# Altium footprint library SOP - SmallOutlinePackage.PcbLib: 21 footprints (part 1 of 2)
Each footprint in its own frame and in the unit in brackets; x right, y up, seen from the top. Pads: shape width x height; smd on the part's side, far side on the other; paste and mask are expansions set on the pad; w line width, h text height; cw(c..) or ccw(c..) is an arc to the next point about the centre after c.
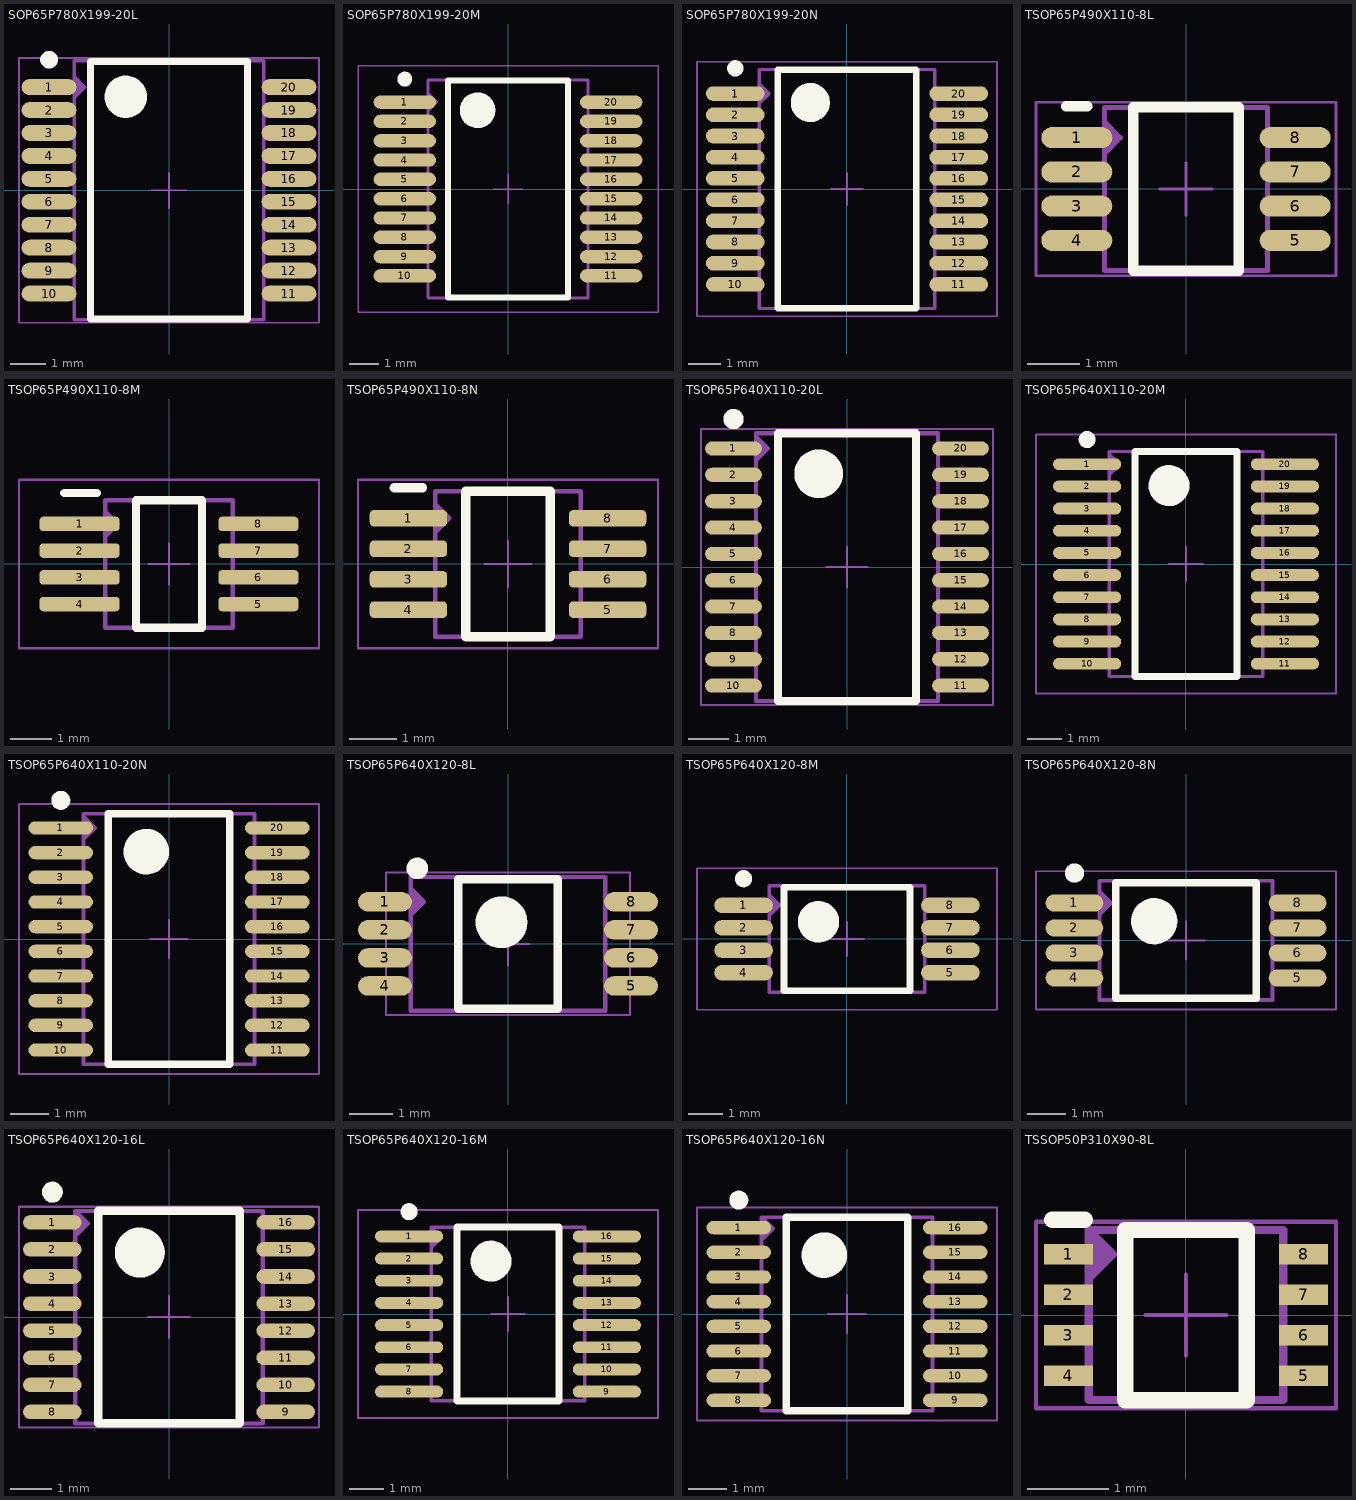
[diagram p0: the footprints below, top view; thin cyan lines are the x and y axes]

## SOP65P780X199-20L [mm] "SOP, 20-Leads, Body 7.3x5.4mm (max), Pitch 0.65mm, IPC High Density"
height 1.99
pads (20):
  oval 1.55x0.45 smd: 1(-3.4,2.925) 2(-3.4,2.275) 3(-3.4,1.625) 4(-3.4,0.975) 5(-3.4,0.325) 6(-3.4,-0.325) 7(-3.4,-0.975) 8(-3.4,-1.625) 9(-3.4,-2.275) 10(-3.4,-2.925) 11(3.4,-2.925) 12(3.4,-2.275) 13(3.4,-1.625) 14(3.4,-0.975) 15(3.4,-0.325) 16(3.4,0.325) 17(3.4,0.975) 18(3.4,1.625) 19(3.4,2.275) 20(3.4,2.925)
Top Overlay:
  circle w0.6: c-1.225,2.65 r0.3
  circle w0.25: c-3.4,3.7 r0.125
  lines w0.2: -2.225,-3.65 2.225,-3.65 2.225,3.65 -2.225,3.65 -2.225,-3.65
TopBody:
  lines w0.1: -2.69,2.625 -2.39,2.925 -2.69,3.225 ; -2.69,2.725 -2.49,2.925 -2.69,3.125 ; -2.69,2.825 -2.59,2.925 -2.69,3.025 ; -2.69,-3.665 2.69,-3.665 2.69,3.665 -2.69,3.665 -2.69,-3.665
TopCourtyard:
  lines w0.05: -0.5,0 0,0 ; 0,-0.5 0,0 ; 0,0.5 0,0 ; 0.5,0 0,0 ; -4.25,-3.75 4.25,-3.75 4.25,3.75 -4.25,3.75 -4.25,-3.75
3D body: height 1.99, standoff 0.1, extent -2.69,-3.665 2.69,3.665

## SOP65P780X199-20M [mm] "SOP, 20-Leads, Body 7.3x5.4mm (max), Pitch 0.65mm, IPC Low Density"
height 1.99
pads (20):
  oval 2.1x0.45 smd: 1(-3.475,2.925) 2(-3.475,2.275) 3(-3.475,1.625) 4(-3.475,0.975) 5(-3.475,0.325) 6(-3.475,-0.325) 7(-3.475,-0.975) 8(-3.475,-1.625) 9(-3.475,-2.275) 10(-3.475,-2.925) 11(3.475,-2.925) 12(3.475,-2.275) 13(3.475,-1.625) 14(3.475,-0.975) 15(3.475,-0.325) 16(3.475,0.325) 17(3.475,0.975) 18(3.475,1.625) 19(3.475,2.275) 20(3.475,2.925)
Top Overlay:
  circle w0.25: c-3.475,3.7 r0.125
  circle w0.6: c-1.025,2.65 r0.3
  lines w0.2: -2.025,-3.65 -2.025,3.65 2.025,3.65 2.025,-3.65 -2.025,-3.65
TopBody:
  lines w0.1: -2.69,2.625 -2.39,2.925 -2.69,3.225 ; -2.69,2.725 -2.49,2.925 -2.69,3.125 ; -2.69,2.825 -2.59,2.925 -2.69,3.025 ; -2.69,-3.665 -2.69,3.665 2.69,3.665 2.69,-3.665 -2.69,-3.665
TopCourtyard:
  lines w0.05: -0.5,0 0,0 ; 0,-0.5 0,0 ; 0,0.5 0,0 ; 0.5,0 0,0 ; -5.05,-4.15 -5.05,4.15 5.05,4.15 5.05,-4.15 -5.05,-4.15
3D body: height 1.99, standoff 0.1, extent -2.69,-3.665 2.69,3.665

## SOP65P780X199-20N [mm] "SOP, 20-Leads, Body 7.3x5.4mm (max), Pitch 0.65mm, IPC Medium Density"
height 1.99
pads (20):
  oval 1.8x0.45 smd: 1(-3.425,2.925) 2(-3.425,2.275) 3(-3.425,1.625) 4(-3.425,0.975) 5(-3.425,0.325) 6(-3.425,-0.325) 7(-3.425,-0.975) 8(-3.425,-1.625) 9(-3.425,-2.275) 10(-3.425,-2.925) 11(3.425,-2.925) 12(3.425,-2.275) 13(3.425,-1.625) 14(3.425,-0.975) 15(3.425,-0.325) 16(3.425,0.325) 17(3.425,0.975) 18(3.425,1.625) 19(3.425,2.275) 20(3.425,2.925)
Top Overlay:
  circle w0.6: c-1.125,2.65 r0.3
  circle w0.25: c-3.425,3.7 r0.125
  lines w0.2: -2.125,-3.65 2.125,-3.65 2.125,3.65 -2.125,3.65 -2.125,-3.65
TopBody:
  lines w0.1: -2.69,2.625 -2.39,2.925 -2.69,3.225 ; -2.69,2.725 -2.49,2.925 -2.69,3.125 ; -2.69,2.825 -2.59,2.925 -2.69,3.025 ; -2.69,-3.665 2.69,-3.665 2.69,3.665 -2.69,3.665 -2.69,-3.665
TopCourtyard:
  lines w0.05: -0.5,0 0,0 ; 0,-0.5 0,0 ; 0,0.5 0,0 ; 0.5,0 0,0 ; -4.6,-3.9 4.6,-3.9 4.6,3.9 -4.6,3.9 -4.6,-3.9
3D body: height 1.99, standoff 0.1, extent -2.69,-3.665 2.69,3.665

## TSOP65P490X110-8L [mm] "TSOP, 8-Leads, Body 3.1x3.1mm (max), Pitch 0.65mm, IPC High Density"
height 1.1
pads (8):
  oval 1.35x0.4 smd: 1(-2.075,0.975) 2(-2.075,0.325) 3(-2.075,-0.325) 4(-2.075,-0.975) 5(2.075,-0.975) 6(2.075,-0.325) 7(2.075,0.325) 8(2.075,0.975)
Top Overlay:
  lines w0.2: -2.275,1.575 -1.875,1.575 ; -1,-1.55 1,-1.55 1,1.55 -1,1.55 -1,-1.55
TopBody:
  lines w0.1: -1.55,0.675 -1.25,0.975 -1.55,1.275 ; -1.55,0.775 -1.35,0.975 -1.55,1.175 ; -1.55,0.875 -1.45,0.975 -1.55,1.075 ; -1.55,-1.55 1.55,-1.55 1.55,1.55 -1.55,1.55 -1.55,-1.55
TopCourtyard:
  lines w0.05: -0.5,0 0,0 ; 0,-0.5 0,0 ; 0,0.5 0,0 ; 0.5,0 0,0 ; -2.85,-1.65 2.85,-1.65 2.85,1.65 -2.85,1.65 -2.85,-1.65
3D body: height 1.1, standoff 0.05, extent -1.55,-1.55 1.55,1.55

## TSOP65P490X110-8M [mm] "TSOP, 8-Leads, Body 3.1x3.1mm (max), Pitch 0.65mm, IPC Low Density"
height 1.1
pads (8):
  rrect50% 1.95x0.35 smd: 1(-2.175,0.975) 2(-2.175,0.325) 3(-2.175,-0.325) 4(-2.175,-0.975) 5(2.175,-0.975) 6(2.175,-0.325) 7(2.175,0.325) 8(2.175,0.975)
Top Overlay:
  lines w0.2: -2.55,1.725 -1.75,1.725 ; -0.8,-1.55 -0.8,1.55 0.8,1.55 0.8,-1.55 -0.8,-1.55
TopBody:
  lines w0.1: -1.55,0.675 -1.25,0.975 -1.55,1.275 ; -1.55,0.775 -1.35,0.975 -1.55,1.175 ; -1.55,0.875 -1.45,0.975 -1.55,1.075 ; -1.55,-1.55 -1.55,1.55 1.55,1.55 1.55,-1.55 -1.55,-1.55
TopCourtyard:
  lines w0.05: -0.5,0 0,0 ; 0,-0.5 0,0 ; 0,0.5 0,0 ; 0.5,0 0,0 ; -3.65,-2.05 -3.65,2.05 3.65,2.05 3.65,-2.05 -3.65,-2.05
3D body: height 1.1, standoff 0.05, extent -1.55,-1.55 1.55,1.55

## TSOP65P490X110-8N [mm] "TSOP, 8-Leads, Body 3.1x3.1mm (max), Pitch 0.65mm, IPC Medium Density"
height 1.1
pads (8):
  rrect50% 1.65x0.35 smd: 1(-2.125,0.975) 2(-2.125,0.325) 3(-2.125,-0.325) 4(-2.125,-0.975) 5(2.125,-0.975) 6(2.125,-0.325) 7(2.125,0.325) 8(2.125,0.975)
Top Overlay:
  lines w0.2: -2.425,1.625 -1.825,1.625 ; -0.9,-1.55 0.9,-1.55 0.9,1.55 -0.9,1.55 -0.9,-1.55
TopBody:
  lines w0.1: -1.55,0.675 -1.25,0.975 -1.55,1.275 ; -1.55,0.775 -1.35,0.975 -1.55,1.175 ; -1.55,0.875 -1.45,0.975 -1.55,1.075 ; -1.55,-1.55 1.55,-1.55 1.55,1.55 -1.55,1.55 -1.55,-1.55
TopCourtyard:
  lines w0.05: -0.5,0 0,0 ; 0,-0.5 0,0 ; 0,0.5 0,0 ; 0.5,0 0,0 ; -3.2,-1.8 3.2,-1.8 3.2,1.8 -3.2,1.8 -3.2,-1.8
3D body: height 1.1, standoff 0.05, extent -1.55,-1.55 1.55,1.55

## TSOP65P640X110-20L [mm] "TSOP, 20-Leads, Body 6.6x4.5mm (max), Pitch 0.65mm, IPC High Density"
height 1.1
pads (20):
  oval 1.4x0.35 smd: 1(-2.8,2.925) 2(-2.8,2.275) 3(-2.8,1.625) 4(-2.8,0.975) 5(-2.8,0.325) 6(-2.8,-0.325) 7(-2.8,-0.975) 8(-2.8,-1.625) 9(-2.8,-2.275) 10(-2.8,-2.925) 11(2.8,-2.925) 12(2.8,-2.275) 13(2.8,-1.625) 14(2.8,-0.975) 15(2.8,-0.325) 16(2.8,0.325) 17(2.8,0.975) 18(2.8,1.625) 19(2.8,2.275) 20(2.8,2.925)
Top Overlay:
  circle w0.25: c-2.8,3.65 r0.125
  circle w0.6: c-0.7,2.3 r0.3
  lines w0.2: -1.7,-3.3 -1.7,3.3 1.7,3.3 1.7,-3.3 -1.7,-3.3
TopBody:
  lines w0.1: -2.25,2.625 -1.95,2.925 -2.25,3.225 ; -2.25,2.725 -2.05,2.925 -2.25,3.125 ; -2.25,2.825 -2.15,2.925 -2.25,3.025 ; -2.25,-3.3 -2.25,3.3 2.25,3.3 2.25,-3.3 -2.25,-3.3
TopCourtyard:
  lines w0.05: -0.5,0 0,0 ; 0,-0.5 0,0 ; 0,0.5 0,0 ; 0.5,0 0,0 ; -3.6,-3.4 -3.6,3.4 3.6,3.4 3.6,-3.4 -3.6,-3.4
3D body: height 1.1, standoff 0.1, extent -2.25,-3.3 2.25,3.3

## TSOP65P640X110-20M [mm] "TSOP, 20-Leads, Body 6.6x4.5mm (max), Pitch 0.65mm, IPC Low Density"
height 1.1
pads (20):
  oval 2x0.35 smd: 1(-2.9,2.925) 2(-2.9,2.275) 3(-2.9,1.625) 4(-2.9,0.975) 5(-2.9,0.325) 6(-2.9,-0.325) 7(-2.9,-0.975) 8(-2.9,-1.625) 9(-2.9,-2.275) 10(-2.9,-2.925) 11(2.9,-2.925) 12(2.9,-2.275) 13(2.9,-1.625) 14(2.9,-0.975) 15(2.9,-0.325) 16(2.9,0.325) 17(2.9,0.975) 18(2.9,1.625) 19(2.9,2.275) 20(2.9,2.925)
Top Overlay:
  circle w0.25: c-2.9,3.65 r0.125
  circle w0.6: c-0.5,2.3 r0.3
  lines w0.2: -1.5,-3.3 -1.5,3.3 1.5,3.3 1.5,-3.3 -1.5,-3.3
TopBody:
  lines w0.1: -2.25,2.625 -1.95,2.925 -2.25,3.225 ; -2.25,2.725 -2.05,2.925 -2.25,3.125 ; -2.25,2.825 -2.15,2.925 -2.25,3.025 ; -2.25,-3.3 -2.25,3.3 2.25,3.3 2.25,-3.3 -2.25,-3.3
TopCourtyard:
  lines w0.05: -0.5,0 0,0 ; 0,-0.5 0,0 ; 0,0.5 0,0 ; 0.5,0 0,0 ; -4.4,-3.8 -4.4,3.8 4.4,3.8 4.4,-3.8 -4.4,-3.8
3D body: height 1.1, standoff 0.1, extent -2.25,-3.3 2.25,3.3

## TSOP65P640X110-20N [mm] "TSOP, 20-Leads, Body 6.6x4.5mm (max), Pitch 0.65mm, IPC Medium Density"
height 1.1
pads (20):
  oval 1.7x0.35 smd: 1(-2.85,2.925) 2(-2.85,2.275) 3(-2.85,1.625) 4(-2.85,0.975) 5(-2.85,0.325) 6(-2.85,-0.325) 7(-2.85,-0.975) 8(-2.85,-1.625) 9(-2.85,-2.275) 10(-2.85,-2.925) 11(2.85,-2.925) 12(2.85,-2.275) 13(2.85,-1.625) 14(2.85,-0.975) 15(2.85,-0.325) 16(2.85,0.325) 17(2.85,0.975) 18(2.85,1.625) 19(2.85,2.275) 20(2.85,2.925)
Top Overlay:
  circle w0.6: c-0.6,2.3 r0.3
  circle w0.25: c-2.85,3.65 r0.125
  lines w0.2: -1.6,-3.3 1.6,-3.3 1.6,3.3 -1.6,3.3 -1.6,-3.3
TopBody:
  lines w0.1: -2.25,2.625 -1.95,2.925 -2.25,3.225 ; -2.25,2.725 -2.05,2.925 -2.25,3.125 ; -2.25,2.825 -2.15,2.925 -2.25,3.025 ; -2.25,-3.3 2.25,-3.3 2.25,3.3 -2.25,3.3 -2.25,-3.3
TopCourtyard:
  lines w0.05: -0.5,0 0,0 ; 0,-0.5 0,0 ; 0,0.5 0,0 ; 0.5,0 0,0 ; -3.95,-3.55 3.95,-3.55 3.95,3.55 -3.95,3.55 -3.95,-3.55
3D body: height 1.1, standoff 0.1, extent -2.25,-3.3 2.25,3.3

## TSOP65P640X120-8L [mm] "TSOP, 8-Leads, Body 3.1x4.5mm (max), Pitch 0.65mm, IPC High Density"
height 1.2
pads (8):
  oval 1.25x0.45 smd: 1(-2.85,0.975) 2(-2.85,0.325) 3(-2.85,-0.325) 4(-2.85,-0.975) 5(2.85,-0.975) 6(2.85,-0.325) 7(2.85,0.325) 8(2.85,0.975)
Top Overlay:
  circle w0.6: c-0.15,0.5 r0.3
  circle w0.25: c-2.1,1.75 r0.125
  lines w0.2: -1.15,-1.5 1.15,-1.5 1.15,1.5 -1.15,1.5 -1.15,-1.5
TopBody:
  lines w0.1: -2.25,0.675 -1.95,0.975 -2.25,1.275 ; -2.25,0.775 -2.05,0.975 -2.25,1.175 ; -2.25,0.875 -2.15,0.975 -2.25,1.075 ; -2.25,-1.55 2.25,-1.55 2.25,1.55 -2.25,1.55 -2.25,-1.55
TopCourtyard:
  lines w0.05: -0.5,0 0,0 ; 0,-0.5 0,0 ; 0,0.5 0,0 ; 0.5,0 0,0 ; -2.825,-1.65 2.825,-1.65 2.825,1.65 -2.825,1.65 -2.825,-1.65
3D body: height 1.2, standoff 0.05, extent -2.25,-1.55 2.25,1.55

## TSOP65P640X120-8M [mm] "TSOP, 8-Leads, Body 3.1x4.5mm (max), Pitch 0.65mm, IPC Low Density"
height 1.2
pads (8):
  oval 1.7x0.45 smd: 1(-3,0.975) 2(-3,0.325) 3(-3,-0.325) 4(-3,-0.975) 5(3,-0.975) 6(3,-0.325) 7(3,0.325) 8(3,0.975)
Top Overlay:
  circle w0.6: c-0.825,0.5 r0.3
  circle w0.25: c-3,1.75 r0.125
  lines w0.2: -1.825,-1.5 1.825,-1.5 1.825,1.5 -1.825,1.5 -1.825,-1.5
TopBody:
  lines w0.1: -2.25,0.675 -1.95,0.975 -2.25,1.275 ; -2.25,0.775 -2.05,0.975 -2.25,1.175 ; -2.25,0.875 -2.15,0.975 -2.25,1.075 ; -2.25,-1.55 2.25,-1.55 2.25,1.55 -2.25,1.55 -2.25,-1.55
TopCourtyard:
  lines w0.05: -0.5,0 0,0 ; 0,-0.5 0,0 ; 0,0.5 0,0 ; 0.5,0 0,0 ; -4.35,-2.05 4.35,-2.05 4.35,2.05 -4.35,2.05 -4.35,-2.05
3D body: height 1.2, standoff 0.05, extent -2.25,-1.55 2.25,1.55

## TSOP65P640X120-8N [mm] "TSOP, 8-Leads, Body 3.1x4.5mm (max), Pitch 0.65mm, IPC Medium Density"
height 1.2
pads (8):
  oval 1.5x0.45 smd: 1(-2.9,0.975) 2(-2.9,0.325) 3(-2.9,-0.325) 4(-2.9,-0.975) 5(2.9,-0.975) 6(2.9,-0.325) 7(2.9,0.325) 8(2.9,0.975)
Top Overlay:
  circle w0.25: c-2.9,1.75 r0.125
  circle w0.6: c-0.825,0.5 r0.3
  lines w0.2: -1.825,-1.5 -1.825,1.5 1.825,1.5 1.825,-1.5 -1.825,-1.5
TopBody:
  lines w0.1: -2.25,0.675 -1.95,0.975 -2.25,1.275 ; -2.25,0.775 -2.05,0.975 -2.25,1.175 ; -2.25,0.875 -2.15,0.975 -2.25,1.075 ; -2.25,-1.55 -2.25,1.55 2.25,1.55 2.25,-1.55 -2.25,-1.55
TopCourtyard:
  lines w0.05: -0.5,0 0,0 ; 0,-0.5 0,0 ; 0,0.5 0,0 ; 0.5,0 0,0 ; -3.9,-1.8 -3.9,1.8 3.9,1.8 3.9,-1.8 -3.9,-1.8
3D body: height 1.2, standoff 0.05, extent -2.25,-1.55 2.25,1.55

## TSOP65P640X120-16L [mm] "TSOP, 16-Leads, Body 5.1x4.5mm (max), Pitch 0.65mm, IPC High Density"
height 1.2
pads (16):
  oval 1.4x0.35 smd: 1(-2.8,2.275) 2(-2.8,1.625) 3(-2.8,0.975) 4(-2.8,0.325) 5(-2.8,-0.325) 6(-2.8,-0.975) 7(-2.8,-1.625) 8(-2.8,-2.275) 9(2.8,-2.275) 10(2.8,-1.625) 11(2.8,-0.975) 12(2.8,-0.325) 13(2.8,0.325) 14(2.8,0.975) 15(2.8,1.625) 16(2.8,2.275)
Top Overlay:
  circle w0.25: c-2.8,3 r0.125
  circle w0.6: c-0.7,1.55 r0.3
  lines w0.2: -1.7,-2.55 -1.7,2.55 1.7,2.55 1.7,-2.55 -1.7,-2.55
TopBody:
  lines w0.1: -2.25,1.95 -1.95,2.25 -2.25,2.55 ; -2.25,2.05 -2.05,2.25 -2.25,2.45 ; -2.25,2.15 -2.15,2.25 -2.25,2.35 ; -2.25,2.55 -2.25,-2.55 2.25,-2.55 2.25,2.55 -2.25,2.55
TopCourtyard:
  lines w0.05: -0.5,0 0,0 ; 0,-0.5 0,0 ; 0,0.5 0,0 ; 0.5,0 0,0 ; -3.6,-2.65 -3.6,2.65 3.6,2.65 3.6,-2.65 -3.6,-2.65
3D body: height 1.2, standoff 0.05, extent -2.25,-2.55 2.25,2.55

## TSOP65P640X120-16M [mm] "TSOP, 16-Leads, Body 5.1x4.5mm (max), Pitch 0.65mm, IPC Low Density"
height 1.2
pads (16):
  oval 2x0.35 smd: 1(-2.9,2.275) 2(-2.9,1.625) 3(-2.9,0.975) 4(-2.9,0.325) 5(-2.9,-0.325) 6(-2.9,-0.975) 7(-2.9,-1.625) 8(-2.9,-2.275) 9(2.9,-2.275) 10(2.9,-1.625) 11(2.9,-0.975) 12(2.9,-0.325) 13(2.9,0.325) 14(2.9,0.975) 15(2.9,1.625) 16(2.9,2.275)
Top Overlay:
  circle w0.25: c-2.9,3 r0.125
  circle w0.6: c-0.5,1.55 r0.3
  lines w0.2: -1.5,-2.55 -1.5,2.55 1.5,2.55 1.5,-2.55 -1.5,-2.55
TopBody:
  lines w0.1: -2.25,1.95 -1.95,2.25 -2.25,2.55 ; -2.25,2.05 -2.05,2.25 -2.25,2.45 ; -2.25,2.15 -2.15,2.25 -2.25,2.35 ; -2.25,2.55 -2.25,-2.55 2.25,-2.55 2.25,2.55 -2.25,2.55
TopCourtyard:
  lines w0.05: -0.5,0 0,0 ; 0,-0.5 0,0 ; 0,0.5 0,0 ; 0.5,0 0,0 ; -4.4,-3.05 -4.4,3.05 4.4,3.05 4.4,-3.05 -4.4,-3.05
3D body: height 1.2, standoff 0.05, extent -2.25,-2.55 2.25,2.55

## TSOP65P640X120-16N [mm] "TSOP, 16-Leads, Body 5.1x4.5mm (max), Pitch 0.65mm, IPC Medium Density"
height 1.2
pads (16):
  oval 1.7x0.35 smd: 1(-2.85,2.275) 2(-2.85,1.625) 3(-2.85,0.975) 4(-2.85,0.325) 5(-2.85,-0.325) 6(-2.85,-0.975) 7(-2.85,-1.625) 8(-2.85,-2.275) 9(2.85,-2.275) 10(2.85,-1.625) 11(2.85,-0.975) 12(2.85,-0.325) 13(2.85,0.325) 14(2.85,0.975) 15(2.85,1.625) 16(2.85,2.275)
Top Overlay:
  circle w0.6: c-0.6,1.55 r0.3
  circle w0.25: c-2.85,3 r0.125
  lines w0.2: -1.6,-2.55 1.6,-2.55 1.6,2.55 -1.6,2.55 -1.6,-2.55
TopBody:
  lines w0.1: -2.25,1.95 -1.95,2.25 -2.25,2.55 ; -2.25,2.05 -2.05,2.25 -2.25,2.45 ; -2.25,2.15 -2.15,2.25 -2.25,2.35 ; -2.25,2.55 2.25,2.55 2.25,-2.55 -2.25,-2.55 -2.25,2.55
TopCourtyard:
  lines w0.05: -0.5,0 0,0 ; 0,-0.5 0,0 ; 0,0.5 0,0 ; 0.5,0 0,0 ; -3.95,-2.8 3.95,-2.8 3.95,2.8 -3.95,2.8 -3.95,-2.8
3D body: height 1.2, standoff 0.05, extent -2.25,-2.55 2.25,2.55

## TSSOP50P310X90-8L [mm] "TSSOP, 8-Leads, Body 2.1x2.4mm (max), Pitch 0.50mm, IPC High Density"
height 0.9
pads (8):
  rect 0.6x0.25 smd: 1(-1.45,0.75) 2(-1.45,0.25) 3(-1.45,-0.25) 4(-1.45,-0.75) 5(1.45,-0.75) 6(1.45,-0.25) 7(1.45,0.25) 8(1.45,0.75)
Top Overlay:
  lines w0.2: -1.65,1.175 -1.25,1.175 ; -0.75,-1.05 0.75,-1.05 0.75,1.05 -0.75,1.05 -0.75,-1.05
TopBody:
  lines w0.1: -1.2,0.45 -0.9,0.75 -1.2,1.05 ; -1.2,0.55 -1,0.75 -1.2,0.95 ; -1.2,0.65 -1.1,0.75 -1.2,0.85 ; -1.2,1.05 1.2,1.05 1.2,-1.05 -1.2,-1.05 -1.2,1.05
  text ".Designator" at 0.254,-0.635 h0.5
TopCourtyard:
  lines w0.05: -0.5,0 0,0 ; 0,-0.5 0,0 ; 0,0.5 0,0 ; 0.5,0 0,0 ; -1.85,-1.15 1.85,-1.15 1.85,1.15 -1.85,1.15 -1.85,-1.15
3D body: height 0.9, standoff 0, extent -1.2,-1.05 1.2,1.05